# EAGLE library part 1-282836-2 (library con_tyco_eurostyle)
Tyco Eurostyle 1-282236-2 Terminal Block 12POS
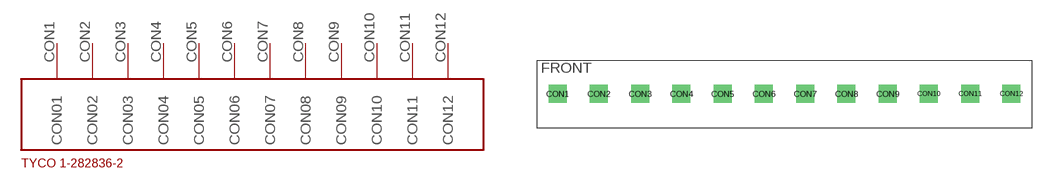
[diagram p0: symbol with the pads of 1-282836-2; footprint 1-282836-2]

Designator prefix -

## 1-282836-2  [1-282836-2]
CON1  CON01
CON2  CON02
CON3  CON03
CON4  CON04
CON5  CON05
CON6  CON06
CON7  CON07
CON8  CON08
CON9  CON09
CON10  CON10
CON11  CON11
CON12  CON12

## Footprint 1-282836-2 (pad centres in mm)
Tyco 1-282836-2 Eurostyle Terminal Block Connector. TERM BLOCK 12POS SIDE ENTRY 5MM Digikey: A98341-ND
drill 1.2 pad 2.184 square: CON1 -30,0; CON2 -25,0; CON3 -20,0; CON4 -15,0; CON5 -10,0; CON6 -5,0; CON7 0,0; CON8 5,0; CON9 10,0; CON10 15,0; CON11 20,0; CON12 25,0